# EAGLE library part W5500 (library IC & Transistor)
Hardwired TCP/IP embedded Ethernet controller Created by: Wai Weng
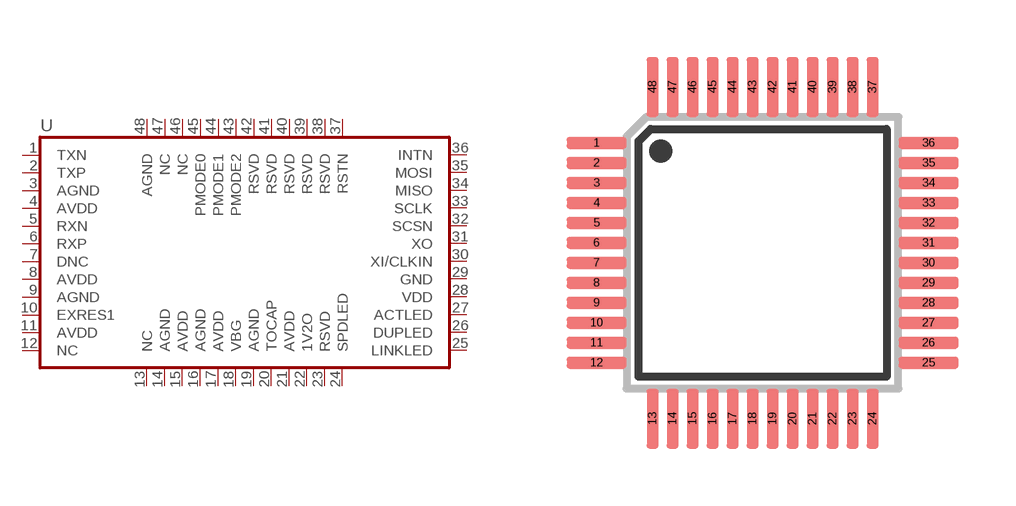
[diagram p70: symbol with the pads of LQFP48; footprint LQFP48]

Designator prefix U

## W5500 (DESC: S Ethernet Controller W5500 LQFP48; MF: WIZnet; MPN: W5500)  [LQFP48]
1  TXN
2  TXP
3  AGND
4  AVDD
5  RXN
6  RXP
7  DNC
8  AVDD
9  AGND
10  EXRES1
11  AVDD
12  NC
13  NC
14  AGND
15  AVDD
16  AGND
17  AVDD
18  VBG
19  AGND
20  TOCAP
21  AVDD
22  1V2O
23  RSVD
24  SPDLED
25  LINKLED
26  DUPLED
27  ACTLED
28  VDD
29  GND
30  XI/CLKIN
31  XO
32  SCSN
33  SCLK
34  MISO
35  MOSI
36  INTN
37  RSTN
38  RSVD
39  RSVD
40  RSVD
41  RSVD
42  RSVD
43  PMODE2
44  PMODE1
45  PMODE0
46  NC
47  NC
48  AGND

## Footprint LQFP48 (pad centres in mm)
LQFP48 VXH48A Auto generated by make-symbol-device-package-bsdl.ulp Rev. 34 Source: http://www.national.com/ds/DP/DP83848VYB.pdf
smd 1.5 x 0.3: 1 -4.15,2.75; 2 -4.15,2.25; 3 -4.15,1.75; 4 -4.15,1.25; 5 -4.15,0.75; 6 -4.15,0.25; 7 -4.15,-0.25; 8 -4.15,-0.75; 9 -4.15,-1.25; 10 -4.15,-1.75; 11 -4.15,-2.25; 12 -4.15,-2.75; 25 4.15,-2.75; 26 4.15,-2.25; 27 4.15,-1.75; 28 4.15,-1.25; 29 4.15,-0.75; 30 4.15,-0.25; 31 4.15,0.25; 32 4.15,0.75; 33 4.15,1.25; 34 4.15,1.75; 35 4.15,2.25; 36 4.15,2.75
smd 0.3 x 1.5: 13 -2.75,-4.15; 14 -2.25,-4.15; 15 -1.75,-4.15; 16 -1.25,-4.15; 17 -0.75,-4.15; 18 -0.25,-4.15; 19 0.25,-4.15; 20 0.75,-4.15; 21 1.25,-4.15; 22 1.75,-4.15; 23 2.25,-4.15; 24 2.75,-4.15; 37 2.75,4.15; 38 2.25,4.15; 39 1.75,4.15; 40 1.25,4.15; 41 0.75,4.15; 42 0.25,4.15; 43 -0.25,4.15; 44 -0.75,4.15; 45 -1.25,4.15; 46 -1.75,4.15; 47 -2.25,4.15; 48 -2.75,4.15